# Altium footprint library PCBlibTemplate.PcbLib: 1 footprints
Each footprint in its own frame and in the unit in brackets; x right, y up, seen from the top. Pads: shape width x height; smd on the part's side, far side on the other; paste and mask are expansions set on the pad; w line width, h text height; cw(c..) or ccw(c..) is an arc to the next point about the centre after c.
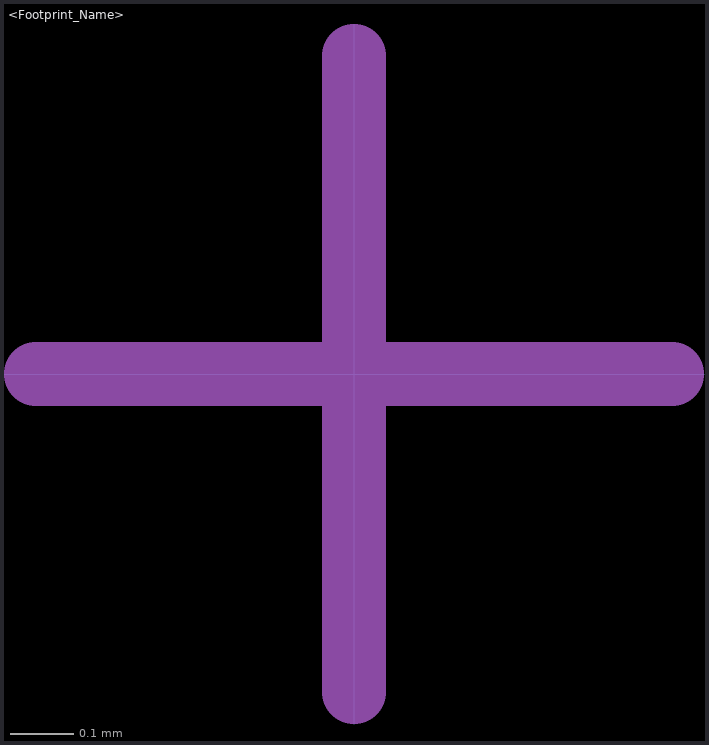
[diagram p0: the footprint, top view; thin cyan lines are the x and y axes]

## <Footprint_Name> [mm] "<Package_Name>, <Number_of_pins>, <Pitch_in_mm>"
height 2.5
ReperDotTop:
  lines w0.1: -0.5,0 0.5,0 ; 0,-0.5 0,0.5
AssemblyOutlineTop:
  text "'.Designator'" at 0,0 h2.5